# Altium schematic symbol library IC.SchLib: 22 symbols
Pins are listed as number, name and electrical type; pins without a type are passive.

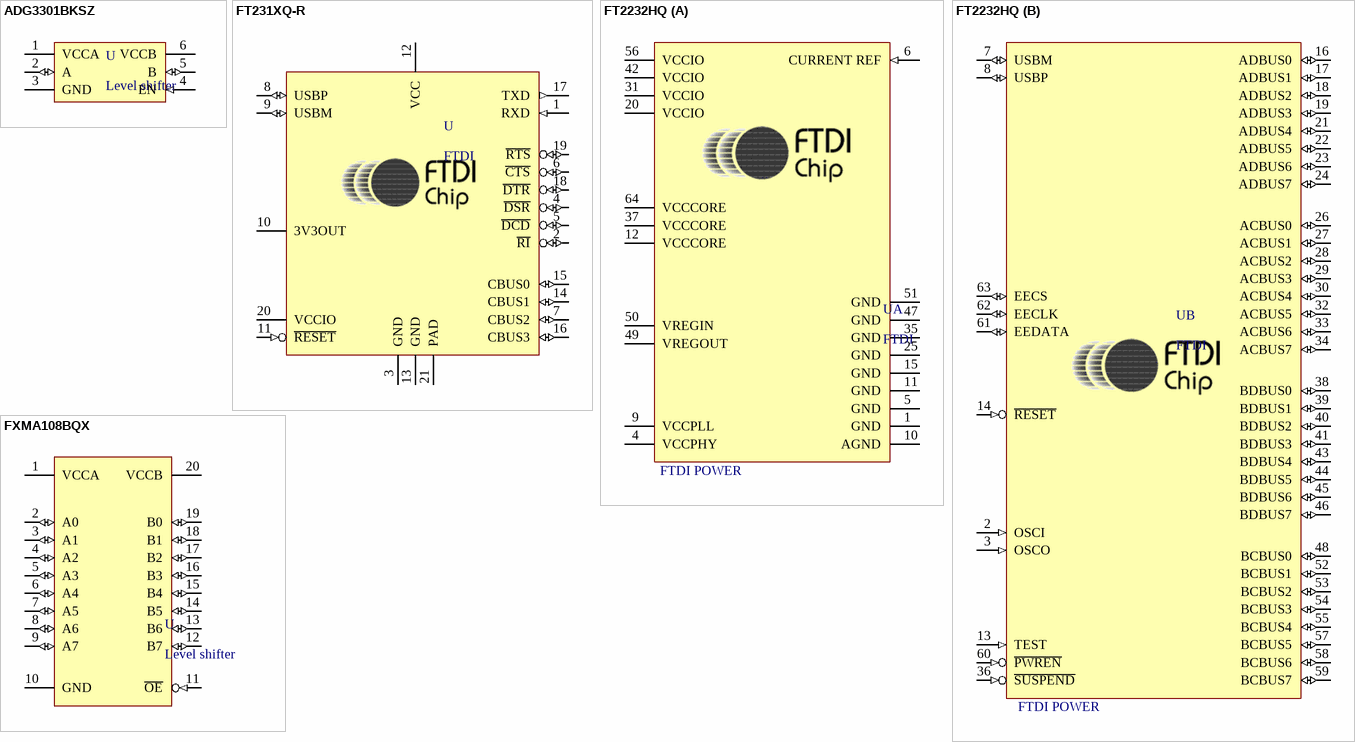
[diagram p0: symbols ADG3301BKSZ to FXMA108BQX]

## ADG3301BKSZ
designator U, comment Level shifter
Level shifter 1-bit bidirectional
footprint ADG3301BKSZ (SOT23, 6-Leads, Body 2,00x2,10mm, Pitch 0,65mm, IPC Low Density)
pins: 1 VCCA (power), 2 A (io), 3 GND (power), 4 EN (in), 5 B (io), 6 VCCB (power)

## FT231XQ-R
designator U, comment FTDI
USB to RS-232 converter; Supplier Part Number 1: 2081330; Supplier 1: Farnell
footprint FT231XQ-R (QFN, 20-Leads, Body 4.00x4.00mm, Pitch 0.50mm, Thermal Pad 1.98x1.98mm, IPC Medium Density)
pins: 1 RXD (in), 2 ~{RI} (io), 3 GND (power), 4 ~{DSR} (io), 5 ~{DCD} (io), 6 ~{CTS} (io), 7 CBUS2 (io), 8 USBP (io), 9 USBM (io), 10 3V3OUT (power), 11 ~{RESET} (in), 12 VCC (power), 13 GND (power), 14 CBUS1 (io), 15 CBUS0 (io), 16 CBUS3 (io), 17 TXD (out), 18 ~{DTR} (io), 19 ~{RTS} (io), 20 VCCIO (power), 21 PAD (power)

## FT2232HQ
designator U, comment FTDI
USB to multipurpose UART / FIFO; Supplier Part Number 1: 768-1346-ND; Supplier 1: Digi-Key
footprint FT2232HQ (QFN, 64-Leads, Body 9.00x9.00mm, Pitch 0.50mm, Thermal Pad 4.35x4.35mm, IPC Medium Density)
part A pins: 1 GND (power), 4 VCCPHY (power), 5 GND (power), 6 CURRENT REF (in), 9 VCCPLL (power), 10 AGND (power), 11 GND (power), 12 VCCCORE (power), 15 GND (power), 20 VCCIO (power), 25 GND (power), 31 VCCIO (power), 35 GND (power), 37 VCCCORE (power), 42 VCCIO (power), 47 GND (power), 49 VREGOUT (power), 50 VREGIN (power), 51 GND (power), 56 VCCIO (power), 64 VCCCORE (power)
part B pins: 2 OSCI (in), 3 OSCO (in), 7 USBM (io), 8 USBP (io), 13 TEST (in), 14 ~{RESET} (in), 16 ADBUS0 (io), 17 ADBUS1 (io), 18 ADBUS2 (io), 19 ADBUS3 (io), 21 ADBUS4 (io), 22 ADBUS5 (io), 23 ADBUS6 (io), 24 ADBUS7 (io), 26 ACBUS0 (io), 27 ACBUS1 (io), 28 ACBUS2 (io), 29 ACBUS3 (io), 30 ACBUS4 (io), 32 ACBUS5 (io), 33 ACBUS6 (io), 34 ACBUS7 (io), 36 ~{SUSPEND} (in), 38 BDBUS0 (io), 39 BDBUS1 (io), 40 BDBUS2 (io), 41 BDBUS3 (io), 43 BDBUS4 (io), 44 BDBUS5 (io), 45 BDBUS6 (io), 46 BDBUS7 (io), 48 BCBUS0 (io), 52 BCBUS1 (io), 53 BCBUS2 (io), 54 BCBUS3 (io), 55 BCBUS4 (io), 57 BCBUS5 (io), 58 BCBUS6 (io), 59 BCBUS7 (io), 60 ~{PWREN} (in), 61 EEDATA (io), 62 EECLK (io), 63 EECS (io)
part A text: FTDI POWER
part B text: FTDI POWER

## FXMA108BQX
designator U, comment Level shifter
Level shifter 8-bit bidirectional; Supplier Part Number 1: 2822575; Supplier 1: Farnell
footprint FXMA108BQX (QFN, 20-Leads, Body 2.50x4.50mm, Pitch 0.50mm, Thermal Pad 1.00x2.90mm, IPC Medium Density)
pins: 1 VCCA (power), 2 A0 (io), 3 A1 (io), 4 A2 (io), 5 A3 (io), 6 A4 (io), 7 A5 (io), 8 A6 (io), 9 A7 (io), 10 GND (power), 11 ~{OE} (in), 12 B7 (io), 13 B6 (io), 14 B5 (io), 15 B4 (io), 16 B3 (io), 17 B2 (io), 18 B1 (io), 19 B0 (io), 20 VCCB (power)

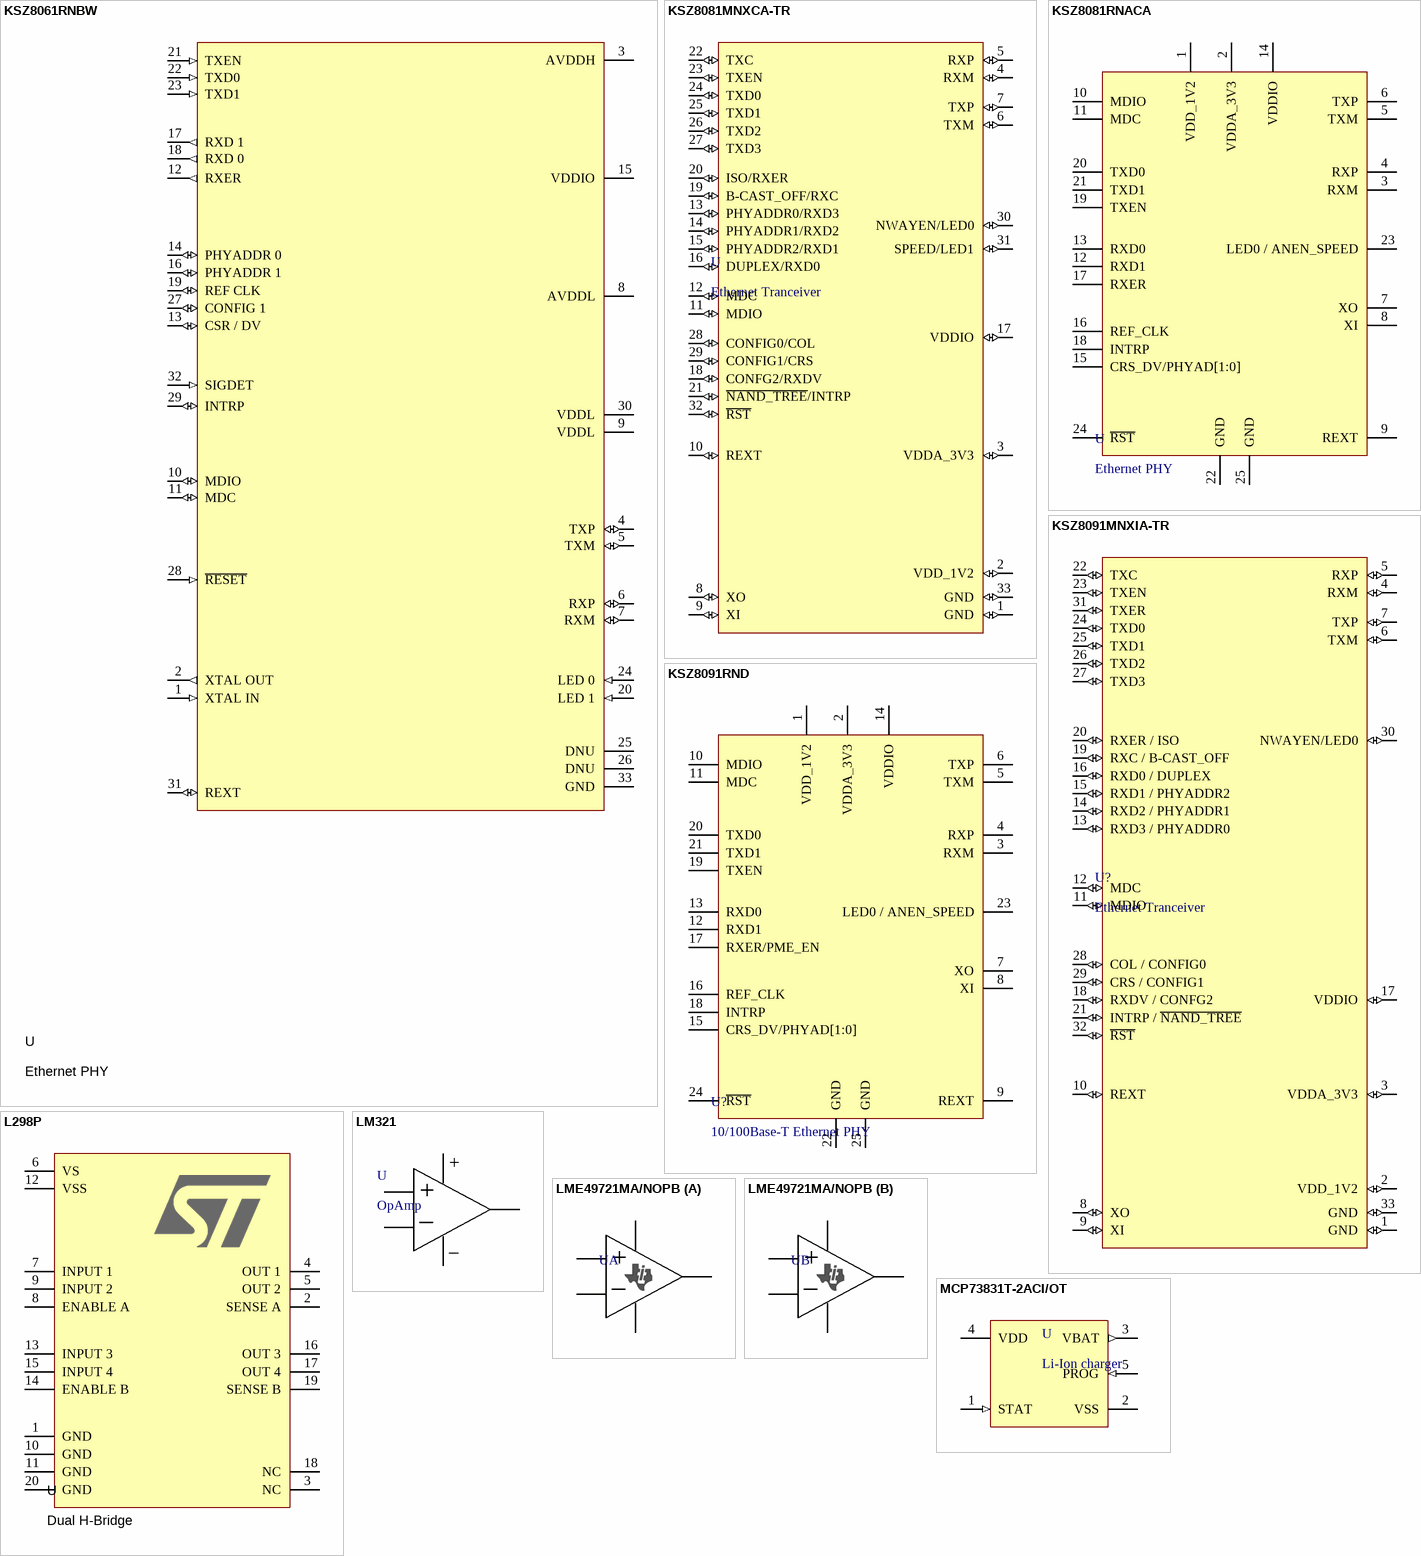
[diagram p1: symbols KSZ8061RNBW to MCP73831T-2ACI/OT]

## KSZ8061RNBW
designator U, comment Ethernet PHY
Ethernet PHY 10BASE-T / 100BASE-T; Supplier 1: Digi-Key; Supplier Part Number 1: KSZ8061RNBW-CT-ND
footprint KSZ8061RNBW (QFN, 32-Leads, Body 5.00x5.00mm, Pitch 0.50mm, Thermal Pad 3.10x3.10mm, IPC Medium Density)
pins: 1 XTAL IN (in), 2 XTAL OUT (out), 3 AVDDH (power), 4 TXP (io), 5 TXM (io), 6 RXP (io), 7 RXM (io), 8 AVDDL (power), 9 VDDL (power), 10 MDIO (io), 11 MDC (io), 12 RXER (out), 13 CSR / DV (io), 14 PHYADDR 0 (io), 15 VDDIO (power), 16 PHYADDR 1 (io), 17 RXD 1 (out), 18 RXD 0 (out), 19 REF CLK (io), 20 LED 1 (in), 21 TXEN (in), 22 TXD0 (in), 23 TXD1 (in), 24 LED 0 (in), 25 DNU (power), 26 DNU (power), 27 CONFIG 1 (io), 28 ~{RESET} (in), 29 INTRP (io), 30 VDDL (power), 31 REXT (io), 32 SIGDET (in), 33 GND (power)

## KSZ8081MNXCA-TR
designator U, comment Ethernet Tranceiver
Ethernet tranceiver 10/100 Base-T MII
footprint KSZ8081MNXCA-TR (MII Ethernet tranceiver 10/100)
pins: 1 GND (io), 2 VDD_1V2 (io), 3 VDDA_3V3 (io), 4 RXM (io), 5 RXP (io), 6 TXM (io), 7 TXP (io), 8 XO (io), 9 XI (io), 10 REXT (io), 11 MDIO (io), 12 MDC (io), 13 PHYADDR0/RXD3 (io), 14 PHYADDR1/RXD2 (io), 15 PHYADDR2/RXD1 (io), 16 DUPLEX/RXD0 (io), 17 VDDIO (io), 18 CONFG2/RXDV (io), 19 B-CAST_OFF/RXC (io), 20 ISO/RXER (io), 21 ~{NAND_TREE}/INTRP (io), 22 TXC (io), 23 TXEN (io), 24 TXD0 (io), 25 TXD1 (io), 26 TXD2 (io), 27 TXD3 (io), 28 CONFIG0/COL (io), 29 CONFIG1/CRS (io), 30 NWAYEN/LED0 (io), 31 SPEED/LED1 (io), 32 ~{RST} (io), 33 GND (io)

## KSZ8081RNACA
designator U, comment Ethernet PHY
Ethernet PHY 10BASE-T/100BASE; Supplier 1: Farnell; Supplier Part Number 1: 2809920
footprint KSZ8081RNACA (QFN, 24-Leads, Body 4.00x4.00mm, Pitch 0.50mm, Thermal Pad 2.50x2.50mm, IPC Medium Density)
pins: 1 VDD_1V2, 2 VDDA_3V3, 3 RXM, 4 RXP, 5 TXM, 6 TXP, 7 XO, 8 XI, 9 REXT, 10 MDIO, 11 MDC, 12 RXD1, 13 RXD0, 14 VDDIO, 15 CRS_DV/PHYAD[1:0], 16 REF_CLK, 17 RXER, 18 INTRP, 19 TXEN, 20 TXD0, 21 TXD1, 22 GND, 23 LED0 / ANEN_SPEED, 24 ~{RST}, 25 GND

## KSZ8091MNXIA-TR
designator U?, comment Ethernet Tranceiver
Ethernet tranceiver 10/100 Base-T MII; Supplier Part Number 1: KSZ8091MNXIA-CT-ND; Supplier 1: Digi-Key
footprint KSZ8091MNXIA-TR (QFN, 32-Leads, Body 5.00x5.00mm, Pitch 0.50mm, Thermal Pad 3.10x3.10mm, IPC Medium Density)
pins: 1 GND (io), 2 VDD_1V2 (io), 3 VDDA_3V3 (io), 4 RXM (io), 5 RXP (io), 6 TXM (io), 7 TXP (io), 8 XO (io), 9 XI (io), 10 REXT (io), 11 MDIO (io), 12 MDC (io), 13 RXD3 / PHYADDR0 (io), 14 RXD2 / PHYADDR1 (io), 15 RXD1 / PHYADDR2 (io), 16 RXD0 / DUPLEX (io), 17 VDDIO (io), 18 RXDV / CONFG2 (io), 19 RXC / B-CAST_OFF (io), 20 RXER / ISO (io), 21 INTRP / ~{NAND_TREE} (io), 22 TXC (io), 23 TXEN (io), 24 TXD0 (io), 25 TXD1 (io), 26 TXD2 (io), 27 TXD3 (io), 28 COL / CONFIG0 (io), 29 CRS / CONFIG1 (io), 30 NWAYEN/LED0 (io), 31 TXER (io), 32 ~{RST} (io), 33 GND (io)

## KSZ8091RND
designator U?, comment 10/100Base-T Ethernet PHY
10/100Base-T Ethernet PHY, QFN, RMII, 50MHz input clk; Supplier 1: Digi-Key; Supplier Part Number 1: KSZ8091RNDCA-CT-ND
footprint KSZ8091RND (QFN, 24-Leads, Body 4.00x4.00mm, Pitch 0.50mm, Thermal Pad 2.50x2.50mm, IPC Medium Density)
pins: 1 VDD_1V2, 2 VDDA_3V3, 3 RXM, 4 RXP, 5 TXM, 6 TXP, 7 XO, 8 XI, 9 REXT, 10 MDIO, 11 MDC, 12 RXD1, 13 RXD0, 14 VDDIO, 15 CRS_DV/PHYAD[1:0], 16 REF_CLK, 17 RXER/PME_EN, 18 INTRP, 19 TXEN, 20 TXD0, 21 TXD1, 22 GND, 23 LED0 / ANEN_SPEED, 24 ~{RST}, 25 GND

## L298P
designator U, comment Dual H-Bridge
Max voltage: 46V; Max current: 4A; Supplier 1: Digi-Key; Supplier Part Number 1: 497-1396-5-ND
footprint L298P (SOP, 20-Leads, Body 15.90x11.00mm, Pitch 1.27mm, IPC Medium Density)
pins: 1 GND, 2 SENSE A, 3 NC, 4 OUT 1, 5 OUT 2, 6 VS, 7 INPUT 1, 8 ENABLE A, 9 INPUT 2, 10 GND, 11 GND, 12 VSS, 13 INPUT 3, 14 ENABLE B, 15 INPUT 4, 16 OUT 3, 17 OUT 4, 18 NC, 19 SENSE B, 20 GND

## LM321
designator U, comment OpAmp
Single supply OpAmp
footprint LM321 (SOT23, 5-Leads, Body 3.00x2.75mm, Pitch 0.95mm, IPC Medium Density)
pins: 1 VDD, 2 VDD, 3 VDD, 4 VDD, 5 VDD
text: +; _

## LME49721MA/NOPB
designator U
Opamp single supply low voltage; Supplier Part Number 1: 3004709; Supplier 1: Farnell
footprint LME49721MA/NOPB (SOIC, 8-Leads, Body 4.91x3.90mm, Pitch 1.27mm, IPC Medium Density)
part A pins: 1 VDD, 2 VDD, 3 VDD, 4 VDD, 8 VDD
part B pins: 4 VDD, 5 VDD, 6 VDD, 7 VDD, 8 VDD
part A text: +; _
part B text: +; _

## MCP73831T-2ACI/OT
designator U, comment Li-Ion charger
Li-Ion Charger IC Single cell; Supplier Part Number 1: 1332158RL; Supplier 1: Farnell
footprint MCP73831 (SOT23, 5-Leads, Body 2.90x2.70mm, Pitch 0.95mm, IPC Medium Density)
pins: 1 STAT (in), 2 VSS (power), 3 VBAT (out), 4 VDD (power), 5 PROG (in)

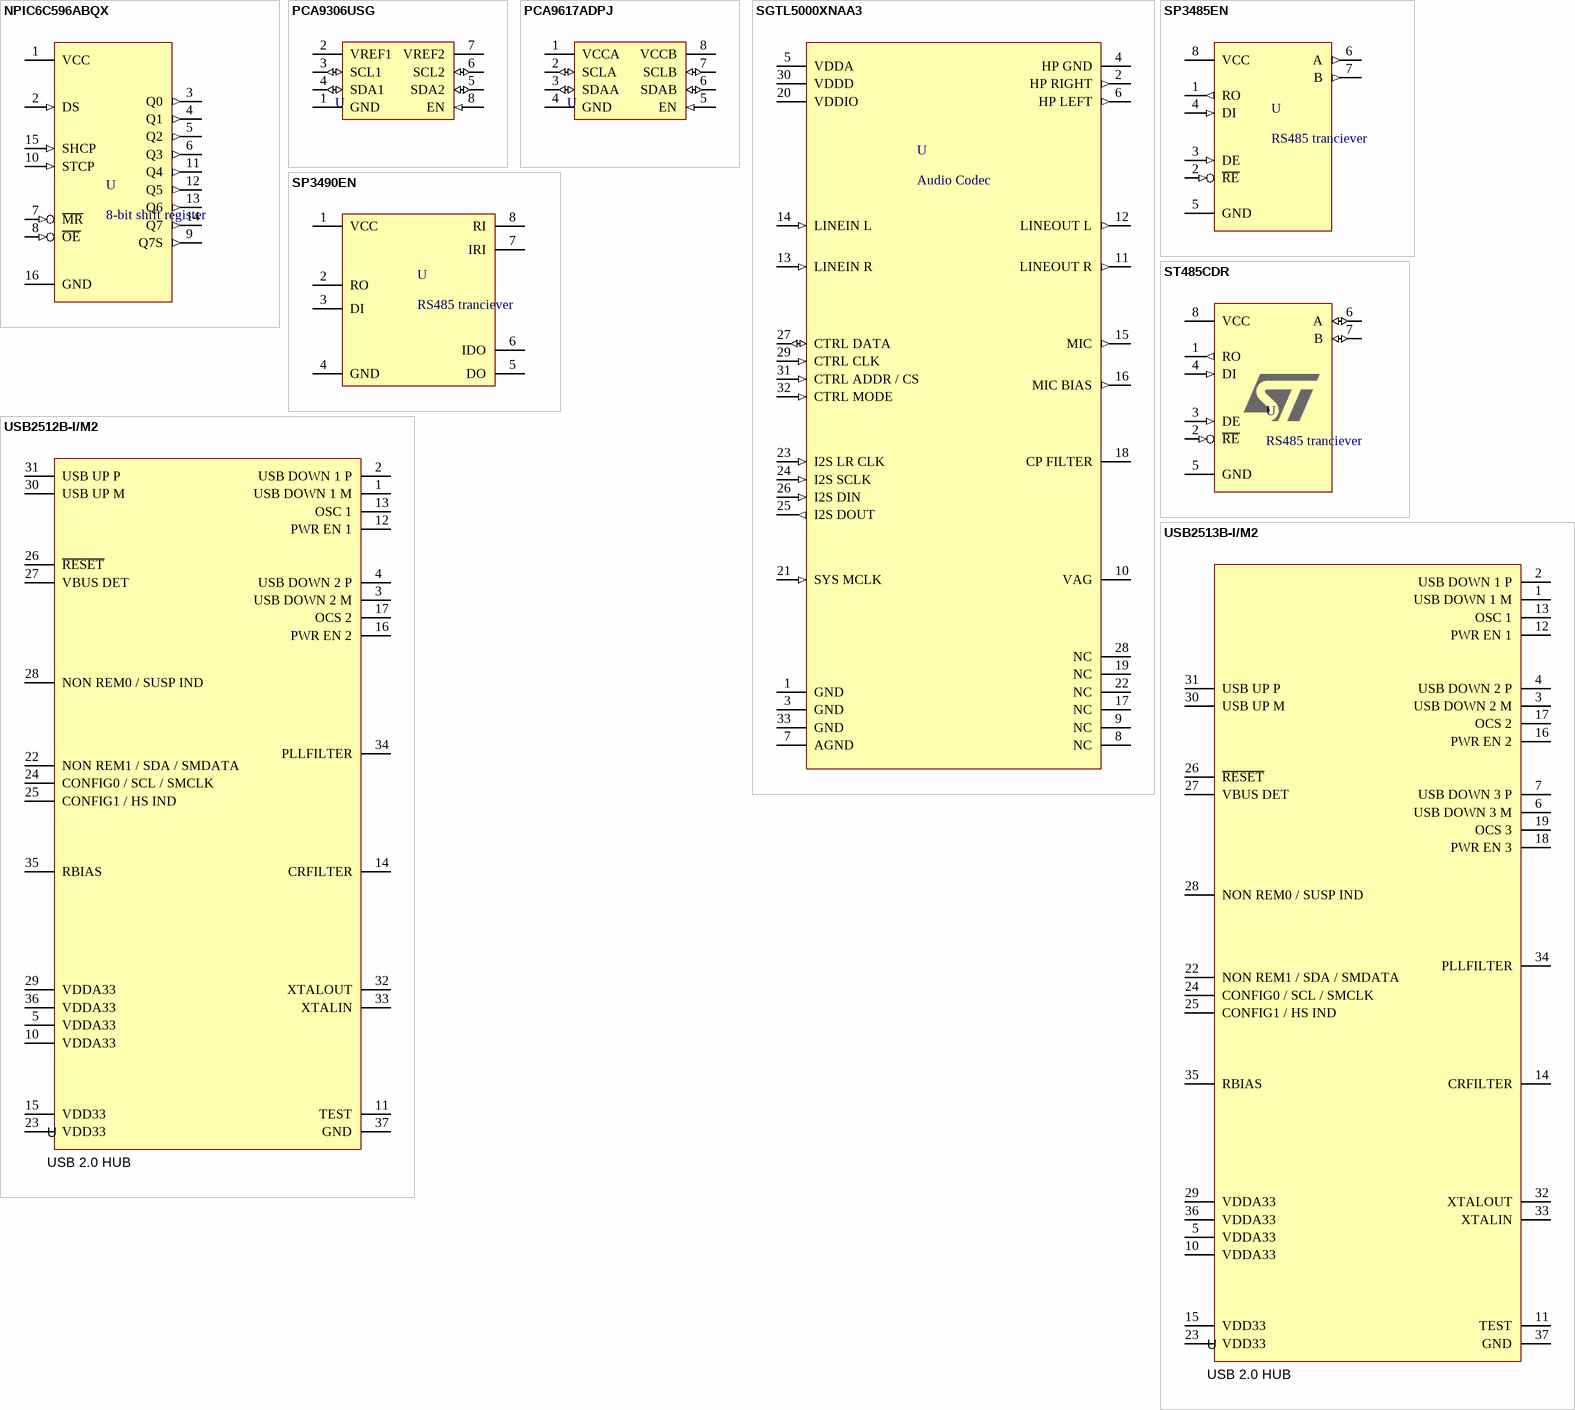
[diagram p2: symbols NPIC6C596ABQX to USB2513B-I/M2]

## NPIC6C596ABQX
designator U, comment 8-bit shift register
Shift register 8-bit serial to parallel/serial; Supplier Part Number 1: 2445194; Supplier 1: Farnell
footprint NPIC6C596ABQX (QFN, 16-Leads, Body 2.50x3.50mm, Pitch 0.50mm, Thermal Pad 1.00x2.00mm, IPC Medium Density)
pins: 1 VCC (power), 2 DS (in), 3 Q0 (out), 4 Q1 (out), 5 Q2 (out), 6 Q3 (out), 7 ~{MR} (in), 8 ~{OE} (in), 9 Q7S (out), 10 STCP (in), 11 Q4 (out), 12 Q5 (out), 13 Q6 (out), 14 Q7 (out), 15 SHCP (in), 16 GND (power)

## PCA9306USG
designator U
I2C Driver
footprint PCA9306USG (TSOP, 8-Leads, Body 3.00x4.40mm, Pitch 0.65mm, IPC Medium Density)
pins: 1 GND (power), 2 VREF1 (power), 3 SCL1 (io), 4 SDA1 (io), 5 SDA2 (io), 6 SCL2 (io), 7 VREF2 (power), 8 EN (in)

## PCA9617ADPJ
designator U
I2C Driver
footprint PCA9617ADPJ (TSOP, 8-Leads, Body 3.00x3.00mm, Pitch 0.65mm, IPC Medium Density)
pins: 1 VCCA (power), 2 SCLA (io), 3 SDAA (io), 4 GND (power), 5 EN (in), 6 SDAB (io), 7 SCLB (io), 8 VCCB (power)

## SGTL5000XNAA3
designator U, comment Audio Codec
Audio codec w/ headophone amp; ADC resolution: 24 bit; Sampling rate: 96 kSPS; Supplier 1: Farnell; Supplier Part Number 1: 2308049
footprint SGTL5000XNAA3 (QFN, 32-Leads, Body 5,00x5,00mm, Pitch 0,50mm, Thermal Pad 3,40x3,40mm, IPC Medium Density)
pins: 1 GND (power), 2 HP RIGHT (out), 3 GND (power), 4 HP GND (power), 5 VDDA (power), 6 HP LEFT (out), 7 AGND (power), 8 NC, 9 NC, 10 VAG, 11 LINEOUT R (out), 12 LINEOUT L (out), 13 LINEIN R (in), 14 LINEIN L (in), 15 MIC (out), 16 MIC BIAS (out), 17 NC, 18 CP FILTER, 19 NC, 20 VDDIO (power), 21 SYS MCLK (in), 22 NC, 23 I2S LR CLK (in), 24 I2S SCLK (in), 25 I2S DOUT (out), 26 I2S DIN (in), 27 CTRL DATA (io), 28 NC, 29 CTRL CLK (in), 30 VDDD (power), 31 CTRL ADDR / CS (in), 32 CTRL MODE (in), 33 GND (power)

## SP3485EN
designator U, comment RS485 tranciever
RS485 tranciever 3V3
footprint SP3485EN (SOIC, 8-Leads, Body 4,90x3,90mm, Pitch 1,27mm, IPC Medium Density)
pins: 1 RO (out), 2 ~{RE} (in), 3 DE (in), 4 DI (in), 5 GND (power), 6 A (out), 7 B (out), 8 VCC (power)

## SP3490EN
designator U, comment RS485 tranciever
RS485 tranciever 3V3
footprint SP3490EN (SOIC, 8-Leads, Body 4,90x3,90mm, Pitch 1,27mm, IPC Medium Density)
pins: 1 VCC, 2 RO, 3 DI, 4 GND, 5 DO, 6 IDO, 7 IRI, 8 RI

## ST485CDR
designator U, comment RS485 tranciever
RS485 tranciever single; Supplier Part Number 1: 1564307; Supplier 1: Farnell
footprint ST485CDR (SOIC, 8-Leads, Body 4.90x3.90mm, Pitch 1.27mm, IPC Medium Density)
pins: 1 RO (out), 2 ~{RE} (in), 3 DE (in), 4 DI (in), 5 GND (power), 6 A (io), 7 B (io), 8 VCC (power)

## USB2512B-I/M2
designator U, comment USB 2.0 HUB
USB 2.0 Hub 2x ports; Supplier 1: Farnell; Supplier Part Number 1: 2810137
footprint USB2512B-I/M2 (QFN, 36-Leads, Body 6.00x6.00mm, Pitch 0.50mm, Thermal Pad 3.70x3.70mm, IPC Medium Density)
pins: 1 USB DOWN 1 M, 2 USB DOWN 1 P, 3 USB DOWN 2 M, 4 USB DOWN 2 P, 5 VDDA33, 10 VDDA33, 11 TEST, 12 PWR EN 1, 13 OSC 1, 14 CRFILTER, 15 VDD33, 16 PWR EN 2, 17 OCS 2, 22 NON REM1 / SDA / SMDATA, 23 VDD33, 24 CONFIG0 / SCL / SMCLK, 25 CONFIG1 / HS IND, 26 ~{RESET}, 27 VBUS DET, 28 NON REM0 / SUSP IND, 29 VDDA33, 30 USB UP M, 31 USB UP P, 32 XTALOUT, 33 XTALIN, 34 PLLFILTER, 35 RBIAS, 36 VDDA33, 37 GND

## USB2513B-I/M2
designator U, comment USB 2.0 HUB
USB 2.0 Hub 3x ports; Supplier 1: Digi-Key; Supplier Part Number 1: USB2513B-I/M2-ND
footprint USB2512B-I/M2 (QFN, 36-Leads, Body 6.00x6.00mm, Pitch 0.50mm, Thermal Pad 3.70x3.70mm, IPC Medium Density)
pins: 1 USB DOWN 1 M, 2 USB DOWN 1 P, 3 USB DOWN 2 M, 4 USB DOWN 2 P, 5 VDDA33, 6 USB DOWN 3 M, 7 USB DOWN 3 P, 10 VDDA33, 11 TEST, 12 PWR EN 1, 13 OSC 1, 14 CRFILTER, 15 VDD33, 16 PWR EN 2, 17 OCS 2, 18 PWR EN 3, 19 OCS 3, 22 NON REM1 / SDA / SMDATA, 23 VDD33, 24 CONFIG0 / SCL / SMCLK, 25 CONFIG1 / HS IND, 26 ~{RESET}, 27 VBUS DET, 28 NON REM0 / SUSP IND, 29 VDDA33, 30 USB UP M, 31 USB UP P, 32 XTALOUT, 33 XTALIN, 34 PLLFILTER, 35 RBIAS, 36 VDDA33, 37 GND